# EAGLE library part SAMD21E (library atmel_sam)
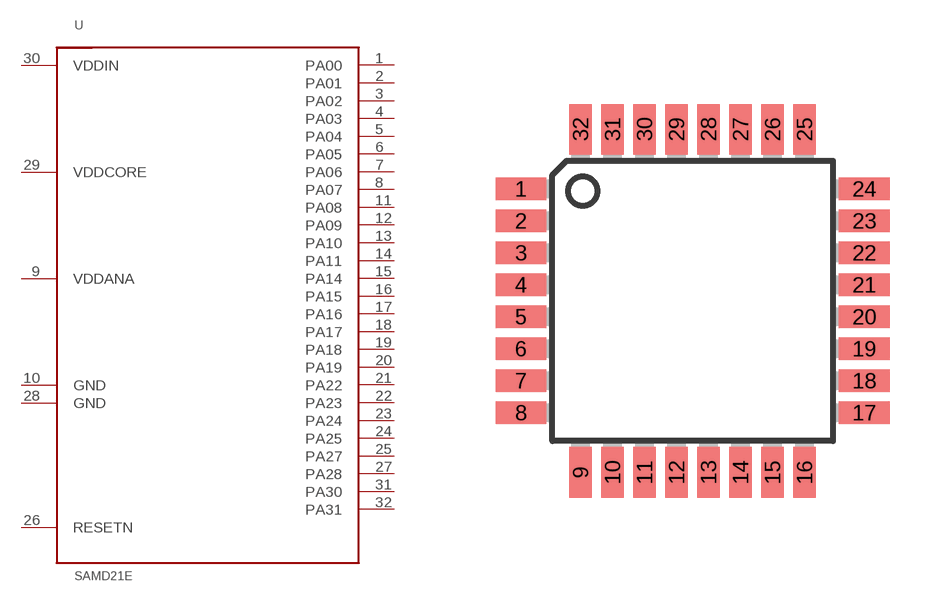
[diagram p0: symbol with the pads of TQFP32-08; footprint TQFP32-08]

Designator prefix U

## SAMD21EXXX-A  [TQFP32-08]
1  PA00
2  PA01
3  PA02
4  PA03
5  PA04
6  PA05
7  PA06
8  PA07
9  VDDANA
10  GND
11  PA08
12  PA09
13  PA10
14  PA11
15  PA14
16  PA15
17  PA16
18  PA17
19  PA18
20  PA19
21  PA22
22  PA23
23  PA24
24  PA25
25  PA27
26  RESETN
27  PA28
28  GND
29  VDDCORE
30  VDDIN
31  PA30
32  PA31

## Footprint TQFP32-08 (pad centres in mm)
Thin Plasic Quad Flat Package Grid 0.8 mm
smd 1.27 x 0.559: 1 -4.293,2.8; 2 -4.293,2; 3 -4.293,1.2; 4 -4.293,0.4; 5 -4.293,-0.4; 6 -4.293,-1.2; 7 -4.293,-2; 8 -4.293,-2.8; 17 4.293,-2.8; 18 4.293,-2; 19 4.293,-1.2; 20 4.293,-0.4; 21 4.293,0.4; 22 4.293,1.2; 23 4.293,2; 24 4.293,2.8
smd 0.559 x 1.27: 9 -2.8,-4.293; 10 -2,-4.293; 11 -1.2,-4.293; 12 -0.4,-4.293; 13 0.4,-4.293; 14 1.2,-4.293; 15 2,-4.293; 16 2.8,-4.293; 25 2.8,4.293; 26 2,4.293; 27 1.2,4.293; 28 0.4,4.293; 29 -0.4,4.293; 30 -1.2,4.293; 31 -2,4.293; 32 -2.8,4.293